# Altium schematic symbol library Components - 14.03.23 - 10.40.SchLib: 1 symbol
Pins are listed as number, name and electrical type; pins without a type are passive.

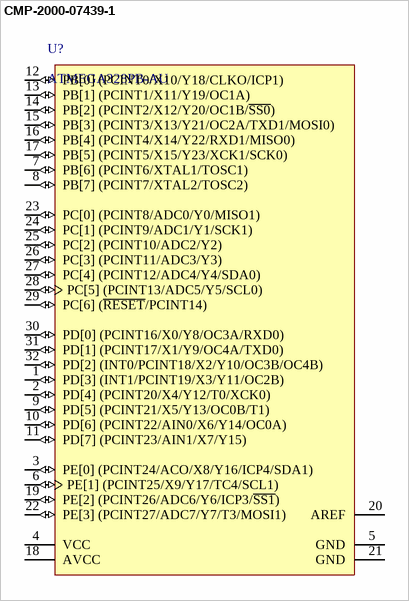
[diagram p0: symbol CMP-2000-07439-1]

## CMP-2000-07439-1
designator U?, comment ATMEGA328PB-AU
AVR Microcontroller, 1.8 to 5.5 V, 32 KB Flash, 1 KB EEPROM, 2 KB SRAM, -40 to 85 degC, 32-Pin TQFP (32A), RoHS, Tray; Manufacturer: Microchip; Datasheet URL: http://ww1.microchip.com/downloads/en/DeviceDoc/40001906A.pdf; Mounting Technology: SurfaceMount; RoHSCompliant: false; Manufacturer URL: http://www.microchip.com/; Package Description: 32-Pin Thin Profile Plastic Quad Flat Package, Body 7 x 7 mm, Pitch 0.8 mm; Package Reference: 32A; Datasheet Version: Rev. A, 04/2017
footprint ATML-32A_M (TQFP, 32-Leads, Body 7x7mm, Pitch 0.8mm, IPC Low Density)
footprint ATML-32A_L (TQFP, 32-Leads, Body 7x7mm, Pitch 0.8mm, IPC High Density)
footprint ATML-32A_N (TQFP, 32-Leads, Body 7x7mm, Pitch 0.8mm, IPC Medium Density)
pins: 1 PD[3] (INT1/PCINT19/X3/Y11/OC2B) (io), 2 PD[4] (PCINT20/X4/Y12/T0/XCK0) (io), 3 PE[0] (PCINT24/ACO/X8/Y16/ICP4/SDA1) (io), 4 VCC (power) "Digital supply voltage.", 5 GND (power) "Ground.", 6 PE[1] (PCINT25/X9/Y17/TC4/SCL1) (io), 7 PB[6] (PCINT6/XTAL1/TOSC1) (io), 8 PB[7] (PCINT7/XTAL2/TOSC2) (io), 9 PD[5] (PCINT21/X5/Y13/OC0B/T1) (io), 10 PD[6] (PCINT22/AIN0/X6/Y14/OC0A) (io), 11 PD[7] (PCINT23/AIN1/X7/Y15) (io), 12 PB[0] (PCINT0/X10/Y18/CLKO/ICP1) (io), 13 PB[1] (PCINT1/X11/Y19/OC1A) (io), 14 PB[2] (PCINT2/X12/Y20/OC1B/~{SS0}) (io), 15 PB[3] (PCINT3/X13/Y21/OC2A/TXD1/MOSI0) (io), 16 PB[4] (PCINT4/X14/Y22/RXD1/MISO0) (io), 17 PB[5] (PCINT5/X15/Y23/XCK1/SCK0) (io), 18 AVCC (power) "AVCC is the supply voltage pin for the A/D Converter, PC[3:0], and PE[3:2]. It should be externally connected to VCC, even if the ADC is not used. If the ADC is used, it should be connected to VCC through a low-pass filter. (See Datasheet)", 19 PE[2] (PCINT26/ADC6/Y6/ICP3/~{SS1}) (io), 20 AREF "AREF is the analog reference pin for the A/D Converter.", 21 GND (power) "Ground.", 22 PE[3] (PCINT27/ADC7/Y7/T3/MOSI1) (io), 23 PC[0] (PCINT8/ADC0/Y0/MISO1) (io), 24 PC[1] (PCINT9/ADC1/Y1/SCK1) (io), 25 PC[2] (PCINT10/ADC2/Y2) (io), 26 PC[3] (PCINT11/ADC3/Y3) (io), 27 PC[4] (PCINT12/ADC4/Y4/SDA0) (io), 28 PC[5] (PCINT13/ADC5/Y5/SCL0) (io), 29 PC[6] (~{RESET}/PCINT14) (io), 30 PD[0] (PCINT16/X0/Y8/OC3A/RXD0) (io), 31 PD[1] (PCINT17/X1/Y9/OC4A/TXD0) (io), 32 PD[2] (INT0/PCINT18/X2/Y10/OC3B/OC4B) (io)